# Altium footprint library Tang ap.PcbLib: 1 footprints
Each footprint in its own frame and in the unit in brackets; x right, y up, seen from the top. Pads: shape width x height; smd on the part's side, far side on the other; paste and mask are expansions set on the pad; w line width, h text height; cw(c..) or ccw(c..) is an arc to the next point about the centre after c.
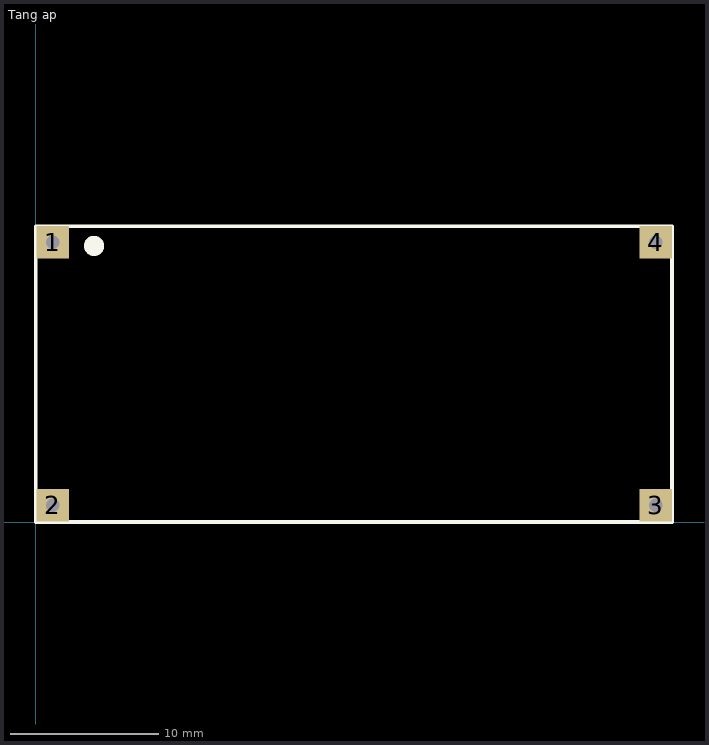
[diagram p0: the footprint, top view; thin cyan lines are the x and y axes]

## Tang ap [mm]
pads (4):
  rect 2.2x2.2 hole 0.9: 1(1.143,18.923) 2(1.143,1.143) 3(41.91,1.143) 4(41.91,18.923)
Top Overlay:
  circle w0.8: c3.937,18.669 r0.284
  lines w0.254: 0,0 43,0 43,20 0,20 0,0